# EAGLE library part 74HC14 (library magic)
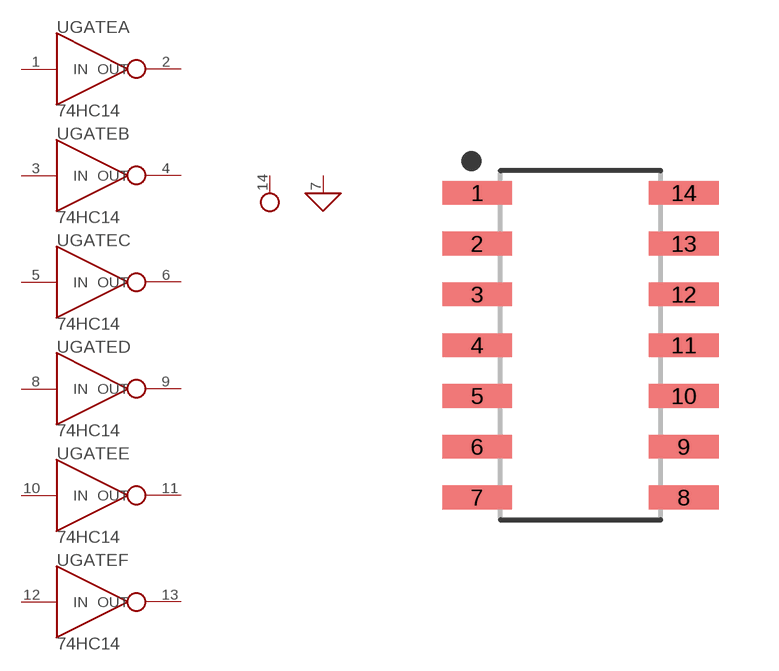
[diagram p2: symbol with the pads of 74HC14; footprint 74HC14]

Designator prefix -; gates GATEC=INVERTER GATEB=INVERTER GATEA=INVERTER GATED=INVERTER GATEE=INVERTER GATEF=INVERTER VCC=PWR GND=GND

## 74HC14  [74HC14]
1  GATEA:IN
2  GATEA:OUT
3  GATEB:IN
4  GATEB:OUT
5  GATEC:IN
6  GATEC:OUT
7  GND:1
8  GATED:IN
9  GATED:OUT
10  GATEE:IN
11  GATEE:OUT
12  GATEF:IN
13  GATEF:OUT
14  VCC:1

## Footprint 74HC14 (pad centres in mm)
14-SOIC, 1.27 mm pitch, 6.00 mm span, 8.65 X 3.90 X 1.75 mm body 14-pin SOIC package with 1.27 mm pitch, 6.00 mm span with body size 8.65 X 3.90 X 1.75 mm
smd 1.746 x 0.592: 1 -2.585,3.81; 2 -2.585,2.54; 3 -2.585,1.27; 4 -2.585,0; 5 -2.585,-1.27; 6 -2.585,-2.54; 7 -2.585,-3.81; 8 2.585,-3.81; 9 2.585,-2.54; 10 2.585,-1.27; 11 2.585,0; 12 2.585,1.27; 13 2.585,2.54; 14 2.585,3.81